# EAGLE library part MODULE_DRV8843 (library microLib)
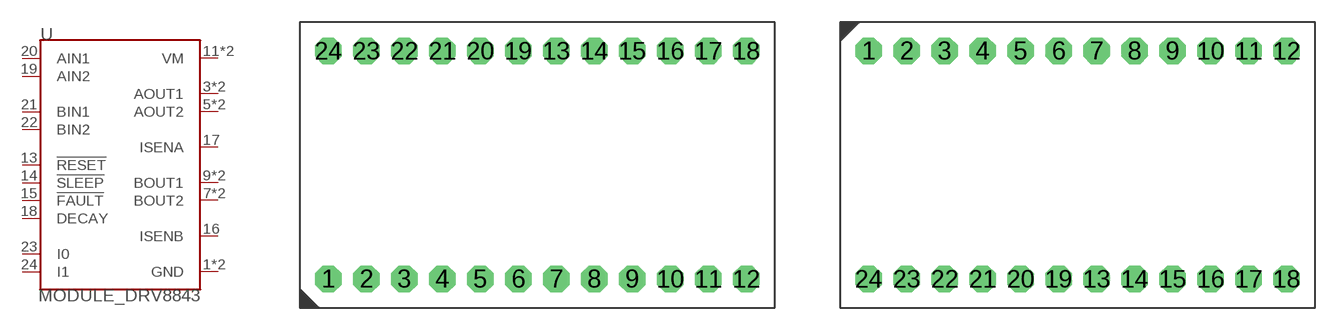
[diagram p24: symbol with the pads of MODULE_DRV884X; footprints MODULE_DRV884X, MODULE_DRV884X_REV]

Designator prefix -

## MODULE_DRV8843UP  [MODULE_DRV884X]
1  GND
2  GND
3  AOUT1
4  AOUT1
5  AOUT2
6  AOUT2
7  BOUT2
8  BOUT2
9  BOUT1
10  BOUT1
11  VM
12  VM
13  !RESET!
14  !SLEEP!
15  !FAULT!
16  ISENB
17  ISENA
18  DECAY
19  AIN2
20  AIN1
21  BIN1
22  BIN2
23  I0
24  I1

## MODULE_DRV8843REV  [MODULE_DRV884X_REV]
Pads as for MODULE_DRV884X

## Footprint MODULE_DRV884X (pad centres in mm)
drill 1.1 pad 1.778 octagon: 1 -13.97,1.905; 2 -11.43,1.905; 3 -8.89,1.905; 4 -6.35,1.905; 5 -3.81,1.905; 6 -1.27,1.905; 7 1.27,1.905; 8 3.81,1.905; 9 6.35,1.905; 10 8.89,1.905; 11 11.43,1.905; 12 13.97,1.905; 13 1.27,17.145; 14 3.81,17.145; 15 6.35,17.145; 16 8.89,17.145; 17 11.43,17.145; 18 13.97,17.145; 19 -1.27,17.145; 20 -3.81,17.145; 21 -6.35,17.145; 22 -8.89,17.145; 23 -11.43,17.145; 24 -13.97,17.145

## Footprint MODULE_DRV884X_REV (pad centres in mm)
drill 1.1 pad 1.778 octagon: 1 -13.97,17.145; 2 -11.43,17.145; 3 -8.89,17.145; 4 -6.35,17.145; 5 -3.81,17.145; 6 -1.27,17.145; 7 1.27,17.145; 8 3.81,17.145; 9 6.35,17.145; 10 8.89,17.145; 11 11.43,17.145; 12 13.97,17.145; 13 1.27,1.905; 14 3.81,1.905; 15 6.35,1.905; 16 8.89,1.905; 17 11.43,1.905; 18 13.97,1.905; 19 -1.27,1.905; 20 -3.81,1.905; 21 -6.35,1.905; 22 -8.89,1.905; 23 -11.43,1.905; 24 -13.97,1.905